# Altium integrated library Analog Devices Data Converters Analog-to-Digital Converters.IntLib: 2404 symbols (part 183 of 346)
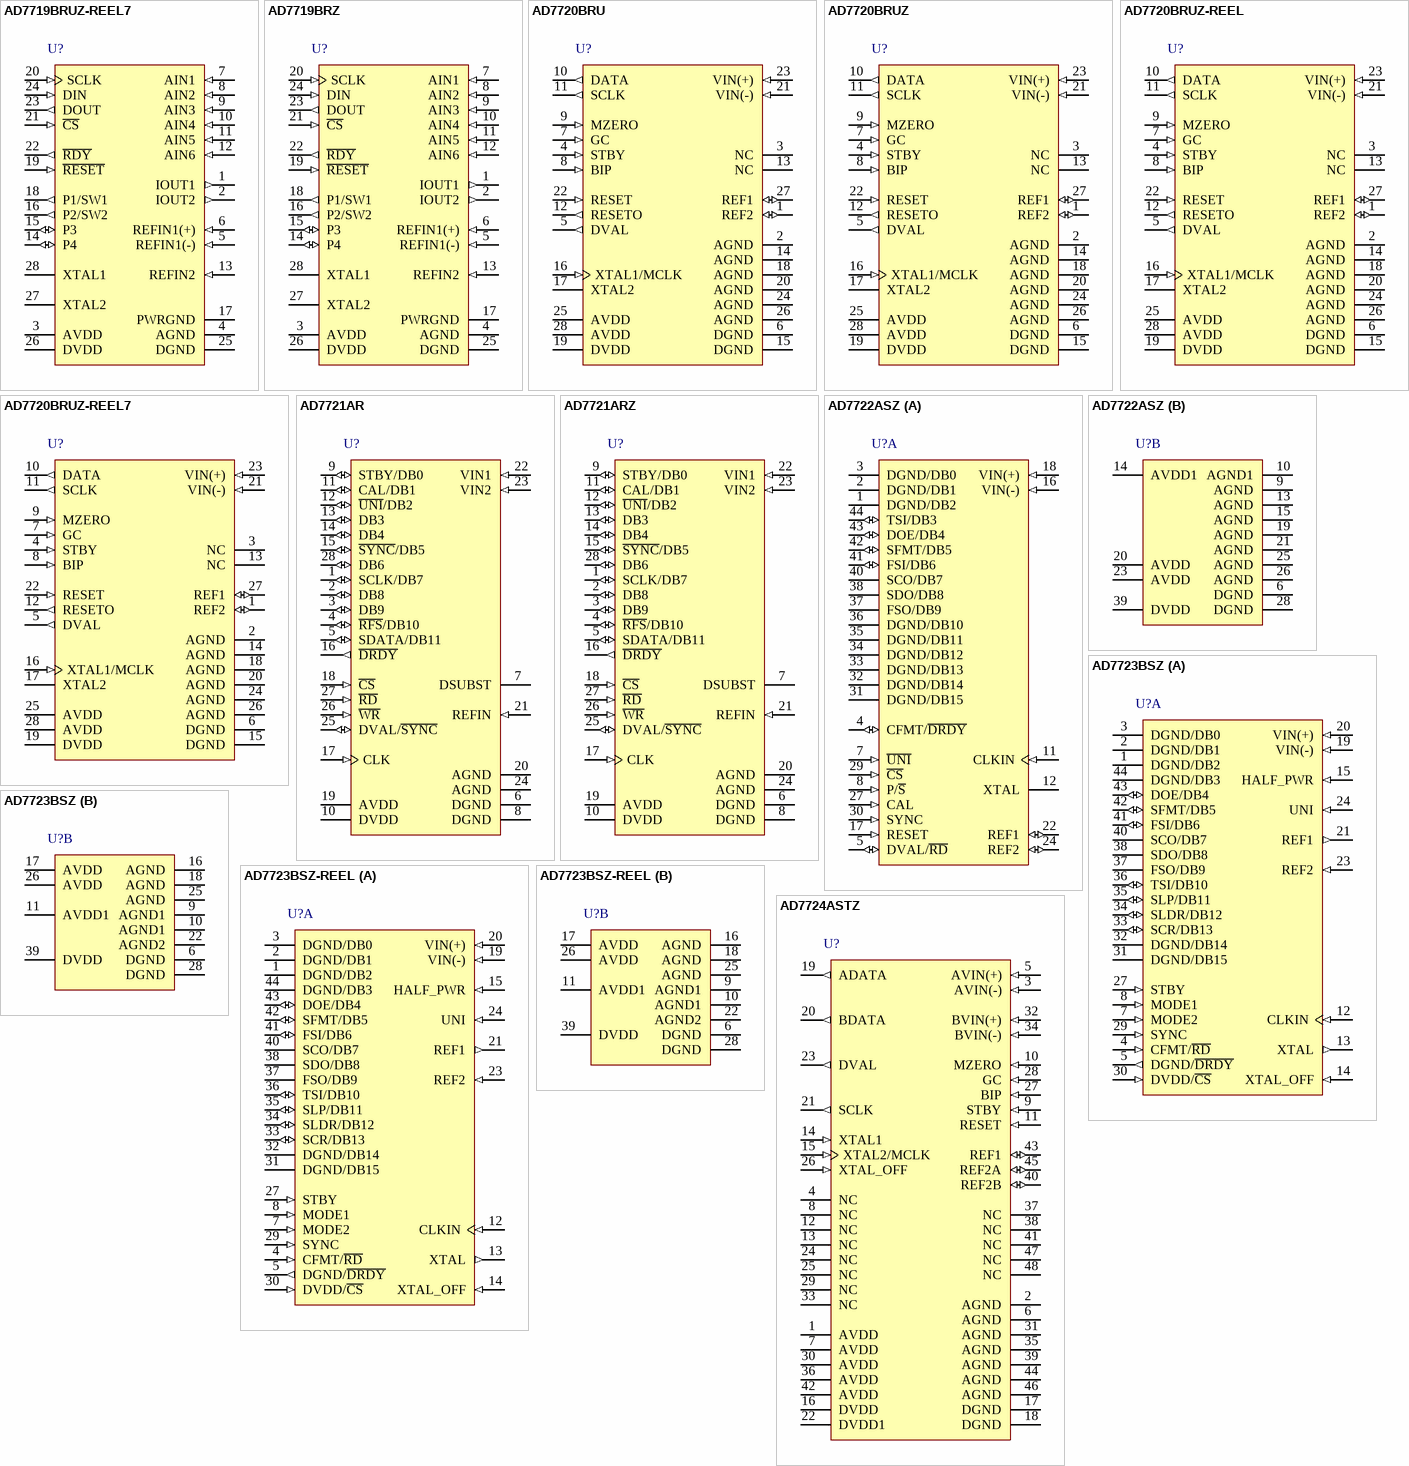
[diagram p254: symbols AD7719BRUZ-REEL7 to AD7724ASTZ]

## AD7723BSZ
designator U?
Single 16-Bit Sigma-Delta Analog-to-Digital Converter with Parallel, Serial Interface, 1.2MSPS, -40 to +85 degC, S-44-2, Pb-Free, Tray; Generic Part Number: AD7723; Manufacturer: Analog Devices; PartNumber: AD7723BSZ; Resolution (Bits): 16; Channels: 1; Throughput Rate (SPS): 1.2M; Interface: Par, Ser; DatasheetVersion: Rev.C; PackageVersion: 041807-A; PackageReference: S-44-2; PackageDescription: 44-Lead Metric Quad Flat Package [MQFP]; Supplier 1: Digi-Key; Supplier Part Number 1: AD7723BSZ-ND; Supplier 2: Farnell; Supplier Part Number 2: 2305561; Supplier 3: Newark; Supplier Part Number 3: 59K5366; Supplier 4: Mouser; Supplier Part Number 4: 584-AD7723BSZ; RoHS: Y; Packing: Tray; Mounting Technology: Surface Mount; Code_JEDEC: MO-122-AA-1; ComponentLink1Description: Manufacturer URL; ComponentLink1URL: http://www.analog.com/en/index.html; ComponentLink2Description: Datasheet; ComponentLink2URL: http://www.analog.com/static/imported-files/data_sheets/AD7723.pdf; ComponentLink3Description: Package Specification; ComponentLink3URL: http://www.analog.com/static/imported-files/packages/209183S_44_2.pdf; ComponentLink4Description: Product URL; ComponentLink4URL: http://www.analog.com/en/analog-to-digital-converters/ad-converters/ad7723/products/product.html
footprint S-44-2_N (QFP, 44-Leads, Body 10x10mm, Pitch 0.8mm, IPC Medium Density)
footprint S-44-2_L (QFP, 44-Leads, Body 10x10mm, Pitch 0.8mm, IPC High Density)
footprint S-44-2_M (QFP, 44-Leads, Body 10x10mm, Pitch 0.8mm, IPC Low Density)
part A pins: 1 DGND/DB2 (hiz) "Data Output Bit.Tie to DGND.", 2 DGND/DB1 (hiz) "Data Output Bit.Tie to DGND.", 3 DGND/DB0 (hiz) "Data Output Bit (LSB).Tie to DGND.", 4 CFMT/~{RD} (in) "Serial Clock Format Logic Input. The clock format pin selects whether the serial data, SDO, is valid on the rising or falling edge of the serial clock, SCO. When CFMT is logic low, serial data is valid on the falling edge of (See Datasheet)", 5 DGND/~{DRDY} (out) "Data Ready Logic Output. A falling edge indicates a new output word is available to be read from the output data register. D\R\D\Y\ returns high upon completion of a read operation. If a read operation does not occur between (See Datasheet)", 7 MODE2 (in) "Mode Control Inputs. The MODE1 and MODE2 pins choose either parallel or serial data interface operation.", 8 MODE1 (in) "Mode Control Inputs. The MODE1 and MODE2 pins choose either parallel or serial data interface operation", 12 CLKIN (in) "Clock Input. An external clock source can be applied directly to this pin with XTAL_OFF tied high.  Alternatively, a parallel resonant fundamental frequency crystal, in parallel with a 1 Mohm resistor, can  be connected (See Datasheet)", 13 XTAL (out) "Input to Crystal Oscillator Amplifier. If an external clock is used, XTAL should be tied to AGND1.", 14 XTAL_OFF (in) "Oscillator Enable Input. A logic high disables the crystal oscillator amplifier to allow use of an external  clock source. Set low when using an external crystal between the CLKIN and XTAL pins.", 15 HALF_PWR (in) "When set high, the power dissipation is reduced by approximately one-half, and a maximum CLKIN  frequency of 10 MHz applies.", 19 VIN(-) (in) "Negative Terminal of the Differential Analog Input.", 20 VIN(+) (in) "Positive Terminal of the Differential Analog Input.", 21 REF1 (out) "Reference Output. REF1 connects through 3 k ohm to the output of the internal 2.5 V reference and to a buffer amplifier that drives the sigma-delta modulator.", 23 REF2 (in) "Reference Input. REF2 connects to the output of an internal buffer amplifier that drives the sigma-delta modulator.When REF2 is used as an input, REF1 must be connected to AGND to disable the internal buffer amplifier.", 24 UNI (in) "Analog Input Range Select Input. The UNI pin selects the analog input range for either bipolar or unipolar  operation. A logic high input selects unipolar operation and a logic low selects bipolar operation.", 27 STBY (in) "Standby Logic Input. A logic high sets the AD7723 into the power-down state.", 29 SYNC (in) "Synchronization Logic Input. When using more than one AD7723 operated from a common master clock,  SYNC allows each ADC to simultaneously sample its analog input and update its output register. A rising  edge resets the (See Datasheet)", 30 DVDD/~{CS} (in) "Chip Select Logic Input. Tie to DGND.", 31 DGND/DB15 (hiz) "Data Output Bit (MSB).Tie to DGND.", 32 DGND/DB14 (hiz) "Data Output Bit.Tie to DGND.", 33 SCR/DB13 (io) "Data Output Bit.Serial Clock Rate Select Input. With SCR set logic low, the serial clock output frequency, SCO, is equal to the CLKIN frequency. A logic high sets it equal to one-half the CLKIN frequency.", 34 SLDR/DB12 (io) "Data Output Bit.Serial Mode Low/High Output Data Rate Select Input. With SLDR set logic high, the low data rate is selected. A logic low selects the high data rate. The high data rate corresponds to data at the output of the (See Datasheet)", 35 SLP/DB11 (io) "Serial Mode Low-Pass/Band-Pass Filter Select Input. With SLP set logic high, the low-pass filter response is selected. A logic low selects band-pass.", 36 TSI/DB10 (io) "Time Slot Logic Input. The logic level on TSI sets the active state of the DOE pin. With TSI set logic high, DOE enables the SDO output buffer when it is a logic high and vice versa. TSI is used when two AD7723s are (See Datasheet)", 37 FSO/DB9 (hiz) "Data Output Bit. Frame Sync Output. FSO indicates the beginning of a word transmission on the SDO pin. Depending on the logic level of the SFMT pin, the FSO signal is either a positive pulse approximately one SCO period wide (See Datasheet)", 38 SDO/DB8 (hiz) "Data Output Bit. Serial Data Output. The serial data is shifted out MSB first, synchronous with the SCO. Serial Mode 1 data transmissions last 32 SCO cycles. After the LSB is output, trailing zeros are output for the (See Datasheet)", 40 SCO/DB7 (hiz) "Data Output Bit. Serial Clock Output.", 41 FSI/DB6 (io) "Data Output Bit. Frame Synchronization Logic Input. The FSI input is used to synchronize the AD7723 serial output data register to an external source and to allow more than one AD7723, operated from a common master clock, to (See Datasheet)", 42 SFMT/DB5 (io) "Serial Data Format Logic Input. The logic level on the SFMT pin selects the format of the FSO signal for Serial Mode 1. A logic low makes the FSO output a pulse one SCO cycle wide at the beginning of a serial data (See Datasheet)", 43 DOE/DB4 (io) "Data Output Bit. Data Output Enable Logic Input. The DOE pin controls the three-state output buffer of the SDO pin. The active state of DOE is determined by the logic level on the TSI pin. When the DOE logic level equals the (See Datasheet)", 44 DGND/DB3 (hiz) "Data Output Bit. Tie to DGND."
part B pins: 6 DGND (power) "Ground Reference for Digital Circuitry.", 9 AGND1 (power) "Digital Logic Power Supply Ground for the Analog Modulator.", 10 AGND1 (power) "Digital Logic Power Supply Ground for the Analog Modulator.", 11 AVDD1 (power) "Digital Logic Power Supply Voltage for the Analog Modulator.", 16 AGND (power) "Power Supply Ground for the Analog Modulator.", 17 AVDD (power) "Positive Power Supply Voltage for the Analog Modulator.", 18 AGND (power) "Power Supply Ground for the Analog Modulator.", 22 AGND2 (power) "Power Supply Ground Return to the Reference Circuitry, REF2, of the Analog Modulator.", 25 AGND (power) "Power Supply Ground for the Analog Modulator.", 26 AVDD (power) "Positive Power Supply Voltage for the Analog Modulator.", 28 DGND (power) "Ground Reference for Digital Circuitry.", 39 DVDD (power) "Digital Power Supply Voltage; 5 V +/- 5%."

## AD7723BSZ-REEL
designator U?
Single 16-Bit Sigma-Delta Analog-to-Digital Converter with Parallel, Serial Interface, 1.2MSPS, -40 to +85 degC, S-44-2, Pb-Free, Reel; Generic Part Number: AD7723; Manufacturer: Analog Devices; PartNumber: AD7723BSZ-REEL; Resolution (Bits): 16; Channels: 1; Throughput Rate (SPS): 1.2M; Interface: Par, Ser; DatasheetVersion: Rev.C; PackageVersion: 041807-A; PackageReference: S-44-2; PackageDescription: 44-Lead Metric Quad Flat Package [MQFP]; Supplier 1: Digi-Key; Supplier Part Number 1: AD7723BSZ-REEL-ND; Supplier 2: Mouser; Supplier Part Number 2: 584-AD7723BSZ-R; RoHS: Y; Packing: Reel; Mounting Technology: Surface Mount; Code_JEDEC: MO-122-AA-1; ComponentLink1Description: Manufacturer URL; ComponentLink1URL: http://www.analog.com/en/index.html; ComponentLink2Description: Datasheet; ComponentLink2URL: http://www.analog.com/static/imported-files/data_sheets/AD7723.pdf; ComponentLink3Description: Package Specification; ComponentLink3URL: http://www.analog.com/static/imported-files/packages/209183S_44_2.pdf; ComponentLink4Description: Product URL; ComponentLink4URL: http://www.analog.com/en/analog-to-digital-converters/ad-converters/ad7723/products/product.html
footprint S-44-2_N (QFP, 44-Leads, Body 10x10mm, Pitch 0.8mm, IPC Medium Density)
footprint S-44-2_L (QFP, 44-Leads, Body 10x10mm, Pitch 0.8mm, IPC High Density)
footprint S-44-2_M (QFP, 44-Leads, Body 10x10mm, Pitch 0.8mm, IPC Low Density)
part A pins: 1 DGND/DB2 (hiz) "Data Output Bit.Tie to DGND.", 2 DGND/DB1 (hiz) "Data Output Bit.Tie to DGND.", 3 DGND/DB0 (hiz) "Data Output Bit (LSB).Tie to DGND.", 4 CFMT/~{RD} (in) "Serial Clock Format Logic Input. The clock format pin selects whether the serial data, SDO, is valid on the rising or falling edge of the serial clock, SCO. When CFMT is logic low, serial data is valid on the falling edge of (See Datasheet)", 5 DGND/~{DRDY} (out) "Data Ready Logic Output. A falling edge indicates a new output word is available to be read from the output data register. D\R\D\Y\ returns high upon completion of a read operation. If a read operation does not occur between (See Datasheet)", 7 MODE2 (in) "Mode Control Inputs. The MODE1 and MODE2 pins choose either parallel or serial data interface operation.", 8 MODE1 (in) "Mode Control Inputs. The MODE1 and MODE2 pins choose either parallel or serial data interface operation", 12 CLKIN (in) "Clock Input. An external clock source can be applied directly to this pin with XTAL_OFF tied high.  Alternatively, a parallel resonant fundamental frequency crystal, in parallel with a 1 Mohm resistor, can  be connected (See Datasheet)", 13 XTAL (out) "Input to Crystal Oscillator Amplifier. If an external clock is used, XTAL should be tied to AGND1.", 14 XTAL_OFF (in) "Oscillator Enable Input. A logic high disables the crystal oscillator amplifier to allow use of an external  clock source. Set low when using an external crystal between the CLKIN and XTAL pins.", 15 HALF_PWR (in) "When set high, the power dissipation is reduced by approximately one-half, and a maximum CLKIN  frequency of 10 MHz applies.", 19 VIN(-) (in) "Negative Terminal of the Differential Analog Input.", 20 VIN(+) (in) "Positive Terminal of the Differential Analog Input.", 21 REF1 (out) "Reference Output. REF1 connects through 3 k ohm to the output of the internal 2.5 V reference and to a buffer amplifier that drives the sigma-delta modulator.", 23 REF2 (in) "Reference Input. REF2 connects to the output of an internal buffer amplifier that drives the sigma-delta modulator.When REF2 is used as an input, REF1 must be connected to AGND to disable the internal buffer amplifier.", 24 UNI (in) "Analog Input Range Select Input. The UNI pin selects the analog input range for either bipolar or unipolar  operation. A logic high input selects unipolar operation and a logic low selects bipolar operation.", 27 STBY (in) "Standby Logic Input. A logic high sets the AD7723 into the power-down state.", 29 SYNC (in) "Synchronization Logic Input. When using more than one AD7723 operated from a common master clock,  SYNC allows each ADC to simultaneously sample its analog input and update its output register. A rising  edge resets the (See Datasheet)", 30 DVDD/~{CS} (in) "Chip Select Logic Input. Tie to DGND.", 31 DGND/DB15 (hiz) "Data Output Bit (MSB).Tie to DGND.", 32 DGND/DB14 (hiz) "Data Output Bit.Tie to DGND.", 33 SCR/DB13 (io) "Data Output Bit.Serial Clock Rate Select Input. With SCR set logic low, the serial clock output frequency, SCO, is equal to the CLKIN frequency. A logic high sets it equal to one-half the CLKIN frequency.", 34 SLDR/DB12 (io) "Data Output Bit.Serial Mode Low/High Output Data Rate Select Input. With SLDR set logic high, the low data rate is selected. A logic low selects the high data rate. The high data rate corresponds to data at the output of the (See Datasheet)", 35 SLP/DB11 (io) "Serial Mode Low-Pass/Band-Pass Filter Select Input. With SLP set logic high, the low-pass filter response is selected. A logic low selects band-pass.", 36 TSI/DB10 (io) "Time Slot Logic Input. The logic level on TSI sets the active state of the DOE pin. With TSI set logic high, DOE enables the SDO output buffer when it is a logic high and vice versa. TSI is used when two AD7723s are (See Datasheet)", 37 FSO/DB9 (hiz) "Data Output Bit. Frame Sync Output. FSO indicates the beginning of a word transmission on the SDO pin. Depending on the logic level of the SFMT pin, the FSO signal is either a positive pulse approximately one SCO period wide (See Datasheet)", 38 SDO/DB8 (hiz) "Data Output Bit. Serial Data Output. The serial data is shifted out MSB first, synchronous with the SCO. Serial Mode 1 data transmissions last 32 SCO cycles. After the LSB is output, trailing zeros are output for the (See Datasheet)", 40 SCO/DB7 (hiz) "Data Output Bit. Serial Clock Output.", 41 FSI/DB6 (io) "Data Output Bit. Frame Synchronization Logic Input. The FSI input is used to synchronize the AD7723 serial output data register to an external source and to allow more than one AD7723, operated from a common master clock, to (See Datasheet)", 42 SFMT/DB5 (io) "Serial Data Format Logic Input. The logic level on the SFMT pin selects the format of the FSO signal for Serial Mode 1. A logic low makes the FSO output a pulse one SCO cycle wide at the beginning of a serial data (See Datasheet)", 43 DOE/DB4 (io) "Data Output Bit. Data Output Enable Logic Input. The DOE pin controls the three-state output buffer of the SDO pin. The active state of DOE is determined by the logic level on the TSI pin. When the DOE logic level equals the (See Datasheet)", 44 DGND/DB3 (hiz) "Data Output Bit. Tie to DGND."
part B pins: 6 DGND (power) "Ground Reference for Digital Circuitry.", 9 AGND1 (power) "Digital Logic Power Supply Ground for the Analog Modulator.", 10 AGND1 (power) "Digital Logic Power Supply Ground for the Analog Modulator.", 11 AVDD1 (power) "Digital Logic Power Supply Voltage for the Analog Modulator.", 16 AGND (power) "Power Supply Ground for the Analog Modulator.", 17 AVDD (power) "Positive Power Supply Voltage for the Analog Modulator.", 18 AGND (power) "Power Supply Ground for the Analog Modulator.", 22 AGND2 (power) "Power Supply Ground Return to the Reference Circuitry, REF2, of the Analog Modulator.", 25 AGND (power) "Power Supply Ground for the Analog Modulator.", 26 AVDD (power) "Positive Power Supply Voltage for the Analog Modulator.", 28 DGND (power) "Ground Reference for Digital Circuitry.", 39 DVDD (power) "Digital Power Supply Voltage; 5 V +/- 5%."

## AD7724ASTZ
designator U?
Dual 15-Bit Sigma-Delta Analog-to-Digital Converter with Serial Interface, CMOS, 250KSPS, -40 to +85 degC, ST-48, Pb-Free, Tray; Generic Part Number: AD7724; Manufacturer: Analog Devices; PartNumber: AD7724ASTZ; Resolution (Bits): 15; Channels: 2; Throughput Rate (SPS): 250K; Interface: Ser; DatasheetVersion: Rev.B; PackageVersion: revA; PackageReference: ST-48; PackageDescription: 48-Pin Thin Quad Flat Pack 0.5 mm Pitch; Supplier 1: Digi-Key; Supplier Part Number 1: AD7724ASTZ-ND; Supplier 2: Mouser; Supplier Part Number 2: 584-AD7724ASTZ; RoHS: Y; Packing: Tray; Mounting Technology: Surface Mount; ComponentLink1Description: Manufacturer URL; ComponentLink1URL: http://www.analog.com/en/index.html; ComponentLink2Description: Datasheet; ComponentLink2URL: http://www.analog.com/static/imported-files/data_sheets/AD7724.pdf; ComponentLink3Description: Package Specification; ComponentLink3URL: http://www.analog.com/static/imported-files/packages/PKG_PDF/LQFP%28ST%29/ST_48.pdf; ComponentLink4Description: Product URL; ComponentLink4URL: http://www.analog.com/en/analog-to-digital-converters/ad-converters/ad7724/products/product.html
footprint ST-48_N (Thin QFP, 48-Leads, Body 7x7mm, Pitch 0.5mm, IPC Medium Density)
footprint ST-48_L (Thin QFP, 48-Leads, Body 7x7mm, Pitch 0.5mm, IPC High Density)
footprint ST-48_M (Thin QFP, 48-Leads, Body 7x7mm, Pitch 0.5mm, IPC Low Density)
pins: 1 AVDD (power) "Analog Positive Supply Voltage, 5 V +/- 5%.", 2 AGND (power) "Ground reference point for analog circuitry", 3 AVIN(-) (in) "Analog Input to Modulator A. In unipolar operation, the analog input range on AVIN(+) is AVIN(-) to (AVIN(-) + VREF); for bipolar operation, the analog input range on AVIN(+) is (AVIN(-) +/- VREF/2). The absolute analog (See Datasheet)", 4 NC "no connected", 5 AVIN(+) (in) "Analog Input to Modulator A. In unipolar operation, the analog input range on AVIN(+) is AVIN(-) to (AVIN(-) + VREF); for bipolar operation, the analog input range on AVIN(+) is (AVIN(-) +/- VREF/2). The absolute analog (See Datasheet)", 6 AGND (power) "Ground reference point for analog circuitry.", 7 AVDD (power) "Analog Positive Supply Voltage, 5 V +/- 5%", 8 NC "no connected", 9 STBY (in) "Standby, Logic Input. When STBY is high, the device is placed in a low power mode. When STBY is low, the device is powered up.", 10 MZERO (in) "Digital Control Input. When MZERO is high, the modulator inputs are internally grounded i.e. tied to AGND in unipolar mode and REF2 in bipolar mode. MZERO allows on-chip offsets to be calibrated out. MZERO is low for normal (See Datasheet)", 11 RESET (in) "Reset Logic Input. RESET is an asynchronous input. When RESET is taken high, the sigma-delta modulator is  reset by shorting the integrator capacitors in the modulator. DVAL goes low for 20 MCLK cycles while the modulator is (See Datasheet)", 12 NC "no connected", 13 NC "no connected", 14 XTAL1 (in) "Input to Crystal Oscillator Amplifier. This pin can also be used to gain up a small input square or sine wave with XTAL_OFF tied low (see Figure 32 on page 12). When a clock source is applied to XTAL1, SCLK will be inverted (See Datasheet)", 15 XTAL2/MCLK (in) "Clock Input. An external clock source can be applied directly to this pin with XTAL_OFF tied high. In this case, XTAL1 should be tied to AGND. Alternatively, a parallel resonant fundamental frequency crystal, in parallel (See Datasheet)", 16 DVDD (power) "Digital Supply Voltage, 5 V +/- 5%", 17 DGND (power) "Ground reference for the digital circuitry", 18 DGND (power) "Ground reference for the digital circuitry", 19 ADATA (out) "Modulator A Bit Stream. The digital bit stream from the sigma-delta modulator is output at ADATA.", 20 BDATA (out) "Modulator B Bit Stream. The digital bit stream from the sigma-delta modulator is output at BDATA.", 21 SCLK (out) "Serial Clock, Logic Output. The bit stream from modulator A and modulator B is valid on the rising edge of ASCLK", 22 DVDD1 (power) "Digital Supply Voltage for the digital outputs. DVDD1 can have a value of 5 V +/- 5% or 3 V +/- 5% so that the logic outputs can be 3 V or 5 V compatible.", 23 DVAL (out) "Data Valid Logic Output. A logic high on DVAL indicates that the data bit stream from the AD7724 is an accurate digital representation of the analog voltage at the input to the sigma-delta modulator. The DVAL pin is set low (See Datasheet)", 24 NC "no connected", 25 NC "no connected", 26 XTAL_OFF (in) "Oscillator Enable Input. A logic high disables the crystal oscillator amplifier to allow use of an external clock source. XTAL_OFF is set to a logic low when an external crystal is used between XTAL1 and XTAL2.", 27 BIP (in) "Analog Input Range Select, Logic Input. A logic low on this input selects unipolar mode. A logic high selects bipolar mode.", 28 GC (in) "Digital Control Input. When GC is high, the gain error of the modulator can be calibrated.", 29 NC "no connected", 30 AVDD (power) "Analog Positive Supply Voltage, 5 V +/- 5%", 31 AGND (power) "Ground reference point for analog circuitry.", 32 BVIN(+) (in) "Analog Input to Modulator B. In unipolar operation, the analog input range on BVIN(+) is BVIN(-) to (BVIN(-) + VREF); for bipolar operation, the analog input range on BVIN(+) is (BVIN(-) +/- VREF/2). The absolute analog (See Datasheet)", 33 NC "no connected", 34 BVIN(-) (in) "Analog Input to Modulator B. In unipolar operation, the analog input range on BVIN(+) is BVIN(-) to (BVIN(-) + VREF); for bipolar operation, the analog input range on BVIN(+) is (BVIN(-) +/- VREF/2). The absolute analog (See Datasheet)", 35 AGND (power) "Ground reference point for analog circuitry.", 36 AVDD (power) "Analog Positive Supply Voltage, 5 V +/- 5%", 37 NC "no connected", 38 NC "no connected", 39 AGND (power) "Ground reference point for analog circuitry.", 40 REF2B (io) "Reference Input/Output to Sigma-Delta Modulator B. REF2B connects to the output of an external buffer amplifier used to drive sigma-delta modulator B. When REF2B is used as an input, REF1 must be connected to AGND.", 41 NC "no connected", 42 AVDD (power) "Analog Positive Supply Voltage, 5 V +/- 5%", 43 REF1 (io) "Reference Input/Output. REF1 connects through 3 k ohm to the output of the internal 2.5 V reference and to the input of two buffer amplifiers that drive sigma-? modulator A and sigma-? modulator B. The pin can be overdriven (See Datasheet)", 44 AGND (power) "Ground reference point for analog circuitry.", 45 REF2A (io) "Reference Input/Output to Sigma-Delta Modulator A. REF2A connects to the output of an external buffer amplifier used to drive sigma-delta modulator A. When REF2A is used as an input, REF1 must be connected to AGND.", 46 AGND (power) "Ground reference point for analog circuitry.", 47 NC "no connected", 48 NC "no connected"

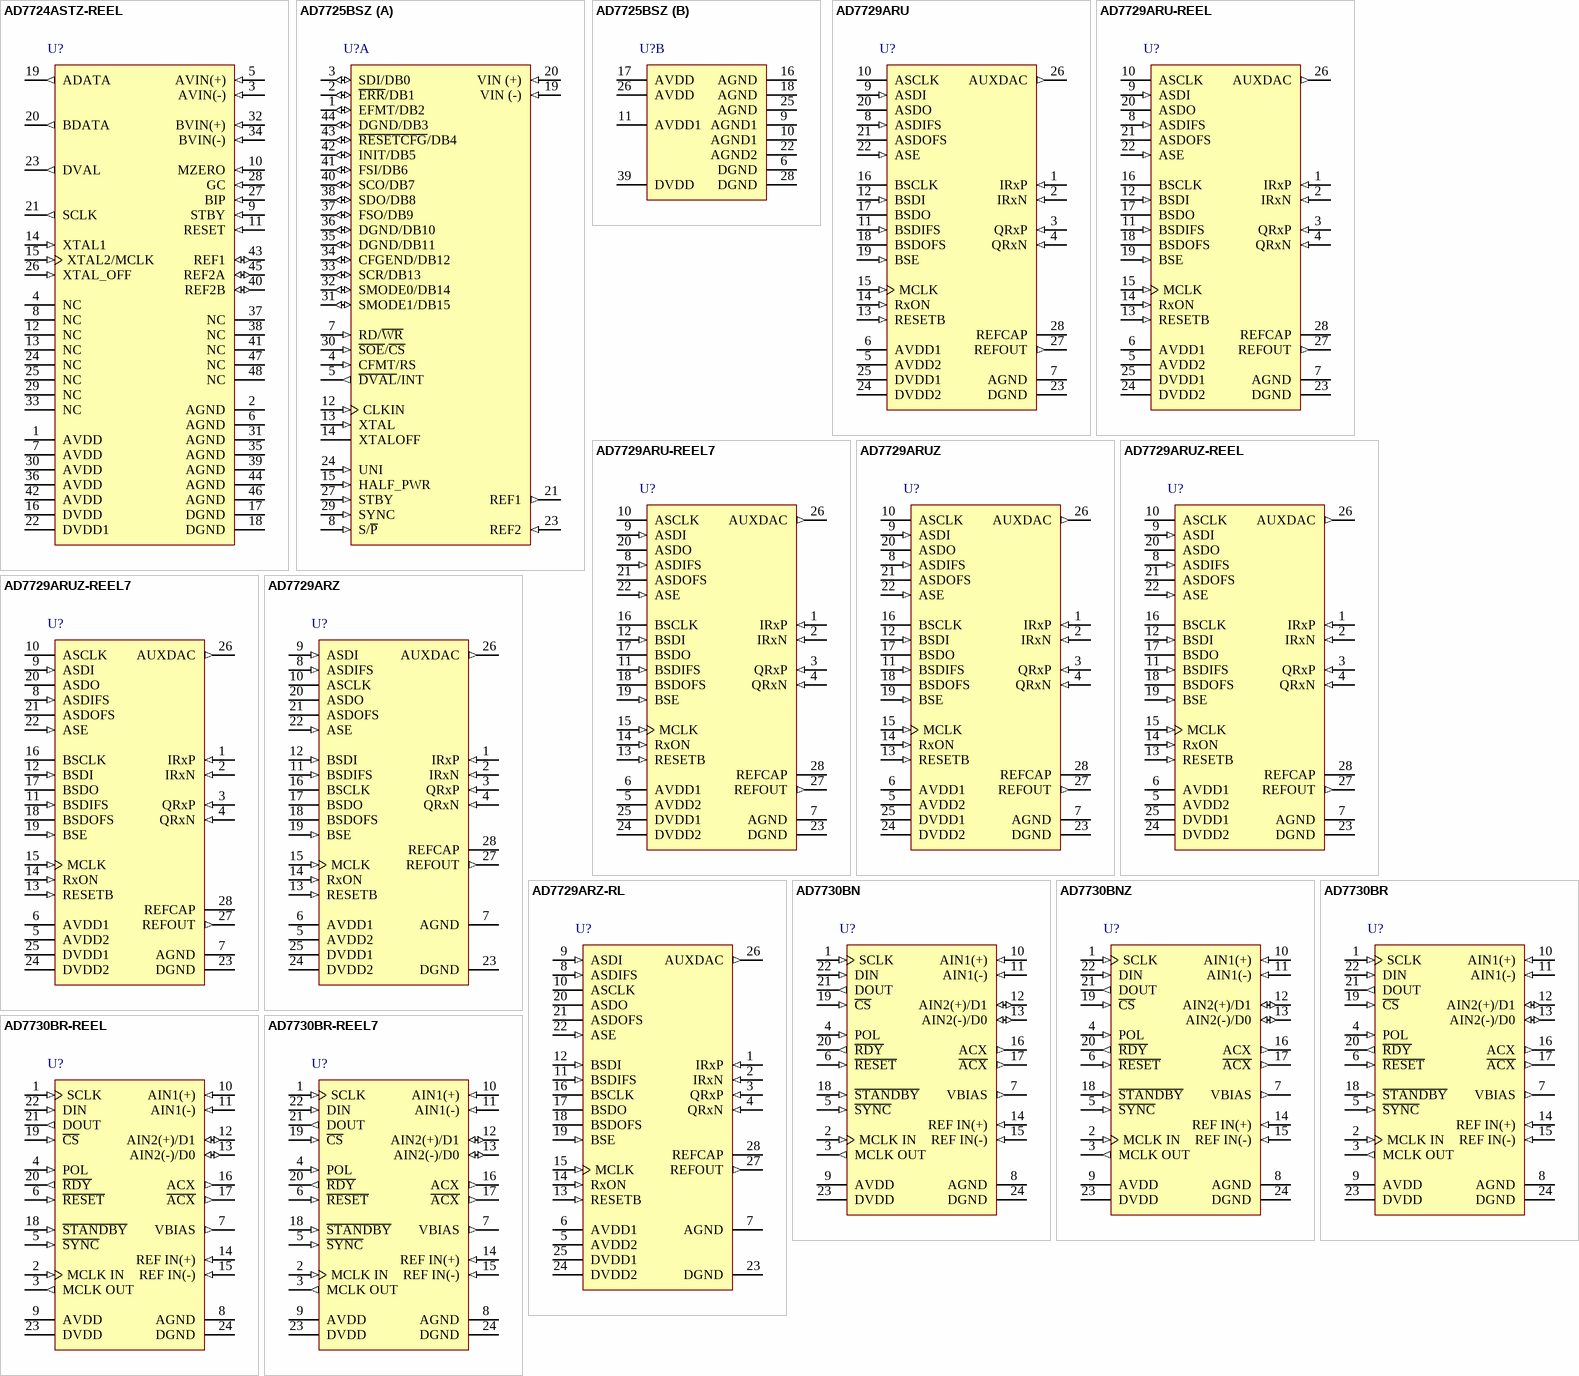
[diagram p56: symbols AD7724ASTZ-REEL to AD7730BR-REEL7]

## AD7724ASTZ-REEL
designator U?
Dual 15-Bit Sigma-Delta Analog-to-Digital Converter with Serial Interface, CMOS, 250KSPS, -40 to +85 degC, ST-48, Pb-Free, Reel; Generic Part Number: AD7724; Manufacturer: Analog Devices; PartNumber: AD7724ASTZ-REEL; Resolution (Bits): 15; Channels: 2; Throughput Rate (SPS): 250K; Interface: Ser; DatasheetVersion: Rev.B; PackageVersion: revA; PackageReference: ST-48; PackageDescription: 48-Pin Thin Quad Flat Pack 0.5 mm Pitch; Supplier 1: Digi-Key; Supplier Part Number 1: AD7724ASTZ-REEL-ND; Supplier 2: Mouser; Supplier Part Number 2: 584-AD7724ASTZ-R; RoHS: Y; Packing: Reel; Mounting Technology: Surface Mount; ComponentLink1Description: Manufacturer URL; ComponentLink1URL: http://www.analog.com/en/index.html; ComponentLink2Description: Datasheet; ComponentLink2URL: http://www.analog.com/static/imported-files/data_sheets/AD7724.pdf; ComponentLink3Description: Package Specification; ComponentLink3URL: http://www.analog.com/static/imported-files/packages/PKG_PDF/LQFP%28ST%29/ST_48.pdf; ComponentLink4Description: Product URL; ComponentLink4URL: http://www.analog.com/en/analog-to-digital-converters/ad-converters/ad7724/products/product.html
footprint ST-48_N (Thin QFP, 48-Leads, Body 7x7mm, Pitch 0.5mm, IPC Medium Density)
footprint ST-48_L (Thin QFP, 48-Leads, Body 7x7mm, Pitch 0.5mm, IPC High Density)
footprint ST-48_M (Thin QFP, 48-Leads, Body 7x7mm, Pitch 0.5mm, IPC Low Density)
pins: 1 AVDD (power) "Analog Positive Supply Voltage, 5 V +/- 5%.", 2 AGND (power) "Ground reference point for analog circuitry", 3 AVIN(-) (in) "Analog Input to Modulator A. In unipolar operation, the analog input range on AVIN(+) is AVIN(-) to (AVIN(-) + VREF); for bipolar operation, the analog input range on AVIN(+) is (AVIN(-) +/- VREF/2). The absolute analog (See Datasheet)", 4 NC "no connected", 5 AVIN(+) (in) "Analog Input to Modulator A. In unipolar operation, the analog input range on AVIN(+) is AVIN(-) to (AVIN(-) + VREF); for bipolar operation, the analog input range on AVIN(+) is (AVIN(-) +/- VREF/2). The absolute analog (See Datasheet)", 6 AGND (power) "Ground reference point for analog circuitry.", 7 AVDD (power) "Analog Positive Supply Voltage, 5 V +/- 5%", 8 NC "no connected", 9 STBY (in) "Standby, Logic Input. When STBY is high, the device is placed in a low power mode. When STBY is low, the device is powered up.", 10 MZERO (in) "Digital Control Input. When MZERO is high, the modulator inputs are internally grounded i.e. tied to AGND in unipolar mode and REF2 in bipolar mode. MZERO allows on-chip offsets to be calibrated out. MZERO is low for normal (See Datasheet)", 11 RESET (in) "Reset Logic Input. RESET is an asynchronous input. When RESET is taken high, the sigma-delta modulator is  reset by shorting the integrator capacitors in the modulator. DVAL goes low for 20 MCLK cycles while the modulator is (See Datasheet)", 12 NC "no connected", 13 NC "no connected", 14 XTAL1 (in) "Input to Crystal Oscillator Amplifier. This pin can also be used to gain up a small input square or sine wave with XTAL_OFF tied low (see Figure 32 on page 12). When a clock source is applied to XTAL1, SCLK will be inverted (See Datasheet)", 15 XTAL2/MCLK (in) "Clock Input. An external clock source can be applied directly to this pin with XTAL_OFF tied high. In this case, XTAL1 should be tied to AGND. Alternatively, a parallel resonant fundamental frequency crystal, in parallel (See Datasheet)", 16 DVDD (power) "Digital Supply Voltage, 5 V +/- 5%", 17 DGND (power) "Ground reference for the digital circuitry", 18 DGND (power) "Ground reference for the digital circuitry", 19 ADATA (out) "Modulator A Bit Stream. The digital bit stream from the sigma-delta modulator is output at ADATA.", 20 BDATA (out) "Modulator B Bit Stream. The digital bit stream from the sigma-delta modulator is output at BDATA.", 21 SCLK (out) "Serial Clock, Logic Output. The bit stream from modulator A and modulator B is valid on the rising edge of ASCLK", 22 DVDD1 (power) "Digital Supply Voltage for the digital outputs. DVDD1 can have a value of 5 V +/- 5% or 3 V +/- 5% so that the logic outputs can be 3 V or 5 V compatible.", 23 DVAL (out) "Data Valid Logic Output. A logic high on DVAL indicates that the data bit stream from the AD7724 is an accurate digital representation of the analog voltage at the input to the sigma-delta modulator. The DVAL pin is set low (See Datasheet)", 24 NC "no connected", 25 NC "no connected", 26 XTAL_OFF (in) "Oscillator Enable Input. A logic high disables the crystal oscillator amplifier to allow use of an external clock source. XTAL_OFF is set to a logic low when an external crystal is used between XTAL1 and XTAL2.", 27 BIP (in) "Analog Input Range Select, Logic Input. A logic low on this input selects unipolar mode. A logic high selects bipolar mode.", 28 GC (in) "Digital Control Input. When GC is high, the gain error of the modulator can be calibrated.", 29 NC "no connected", 30 AVDD (power) "Analog Positive Supply Voltage, 5 V +/- 5%", 31 AGND (power) "Ground reference point for analog circuitry.", 32 BVIN(+) (in) "Analog Input to Modulator B. In unipolar operation, the analog input range on BVIN(+) is BVIN(-) to (BVIN(-) + VREF); for bipolar operation, the analog input range on BVIN(+) is (BVIN(-) +/- VREF/2). The absolute analog (See Datasheet)", 33 NC "no connected", 34 BVIN(-) (in) "Analog Input to Modulator B. In unipolar operation, the analog input range on BVIN(+) is BVIN(-) to (BVIN(-) + VREF); for bipolar operation, the analog input range on BVIN(+) is (BVIN(-) +/- VREF/2). The absolute analog (See Datasheet)", 35 AGND (power) "Ground reference point for analog circuitry.", 36 AVDD (power) "Analog Positive Supply Voltage, 5 V +/- 5%", 37 NC "no connected", 38 NC "no connected", 39 AGND (power) "Ground reference point for analog circuitry.", 40 REF2B (io) "Reference Input/Output to Sigma-Delta Modulator B. REF2B connects to the output of an external buffer amplifier used to drive sigma-delta modulator B. When REF2B is used as an input, REF1 must be connected to AGND.", 41 NC "no connected", 42 AVDD (power) "Analog Positive Supply Voltage, 5 V +/- 5%", 43 REF1 (io) "Reference Input/Output. REF1 connects through 3 k ohm to the output of the internal 2.5 V reference and to the input of two buffer amplifiers that drive sigma-? modulator A and sigma-? modulator B. The pin can be overdriven (See Datasheet)", 44 AGND (power) "Ground reference point for analog circuitry.", 45 REF2A (io) "Reference Input/Output to Sigma-Delta Modulator A. REF2A connects to the output of an external buffer amplifier used to drive sigma-delta modulator A. When REF2A is used as an input, REF1 must be connected to AGND.", 46 AGND (power) "Ground reference point for analog circuitry.", 47 NC "no connected", 48 NC "no connected"

## AD7725BSZ
designator U?
Single 16-Bit Sigma-Delta Analog-to-Digital Converter with Parallel, Serial Interface, 900KSPS, -40 to +85 degC, S-44-2, Pb-Free, Tray; Generic Part Number: AD7725; Manufacturer: Analog Devices; PartNumber: AD7725BSZ; Resolution (Bits): 16; Channels: 1; Throughput Rate (SPS): 900K; Interface: Par, Ser; DatasheetVersion: Rev.A; PackageVersion: 041807-A; PackageReference: S-44-2; PackageDescription: 44-Lead Metric Quad Flat Package [MQFP]; Supplier 1: Digi-Key; Supplier Part Number 1: AD7725BSZ-ND; Supplier 2: Newark; Supplier Part Number 2: 12M8930; Supplier 3: Mouser; Supplier Part Number 3: N/A; RoHS: Y; Packing: Tray; Mounting Technology: Surface Mount; Code_JEDEC: MO-122-AA-1; ComponentLink1Description: Manufacturer URL; ComponentLink1URL: http://www.analog.com/en/index.html; ComponentLink2Description: Datasheet; ComponentLink2URL: http://www.analog.com/static/imported-files/data_sheets/AD7725.pdf; ComponentLink3Description: Package Specification; ComponentLink3URL: http://www.analog.com/static/imported-files/packages/209183S_44_2.pdf; ComponentLink4Description: Product URL; ComponentLink4URL: http://www.analog.com/en/analog-to-digital-converters/ad-converters/ad7725/products/product.html
footprint S-44-2_N (QFP, 44-Leads, Body 10x10mm, Pitch 0.8mm, IPC Medium Density)
footprint S-44-2_L (QFP, 44-Leads, Body 10x10mm, Pitch 0.8mm, IPC High Density)
footprint S-44-2_M (QFP, 44-Leads, Body 10x10mm, Pitch 0.8mm, IPC Low Density)
part A pins: 1 EFMT/DB2 (io) "Serial Mode. EFMT-Serial Clock Format, Logic Input. This clock format pin selects the clock edge to be used during configuration. When EFMT is low, Serial Data In is valid on the rising edge of SCO; when EFMT is high, Serial (See Datasheet)", 2 ~{ERR}/DB1 (io) "Serial Mode. E\R\R\-Configuration Error Flag, Logic Output. If an error occurs during configuration, this output goes low and is reset high by a pulse on the R\E\S\E\T\C\F\G\ pin.Parallel Mode. DB1-Data Input/Output Bit.", 3 SDI/DB0 (io) "Serial Mode. SDI-Serial Data Input. Serial data is shifted in to the AD7725 MSB first, in twos complement format, synchronous with SCO.Parallel Mode. DB0-Data Input/Output Bit (LSB).", 4 CFMT/RS (in) "Serial Mode. CFMT-Serial Clock Format, Logic Input. This clock format pin selects the clock edge to be used during normal operation. When CFMT is low, Serial Data Out is valid on the rising edge of SCO; when CFMT is high, (See Datasheet)", 5 ~{DVAL}/INT (out) "Serial Mode. D\V\A\L\-Data Valid Logic Output. This output is low when there are no overflows in the postprocessor and goes high when an overflow occurs in the postprocessor.Parallel Mode. INT-Interrupt Logic Output. INT (See Datasheet)", 7 RD/~{WR} (in) "Serial Mode. This input is not used in serial mode and should be tied to DGND. Parallel Mode. Read/Write Logic Input. This input is used in conjunction with the C\S\  input to read data from or write data to the device. A (See Datasheet)", 8 S/~{P} (in) "Serial/Parallel Interface Select. When S/P\ is tied low, parallel mode is selected. Serial mode is selected when S/P\ is tied high. To change the mode, a full power cycle needs to be performed.", 12 CLKIN (in) "Clock Input. An external clock source can be applied directly to this pin with XTALOFF tied high. Alternatively, a parallel resonant fundamental frequency crystal, in parallel with a 1 M resistor, can be connected between (See Datasheet)", 13 XTAL (in) "Input to Crystal Oscillator Amplifier. If an external clock is used, XTAL should be tied to AGND1.", 14 XTALOFF "Oscillator Enable Input. A logic high disables the crystal oscillator amplifier to allow the use of an external clock source. Set low to enable the crystal oscillator amplifier when using an external crystal between the (See Datasheet)", 15 HALF_PWR (in) "Logic Input. When this input is low, the typical analog current is 50 mA and a maximum CLKIN frequency of 14.4 MHz applies. When this input is high, the analog current typically halves and a maximum CLKIN frequency of 9.6 (See Datasheet)", 19 VIN (-) (in) "Negative Terminal of the Differential Analog Input.", 20 VIN (+) (in) "Positive Terminal of the Differential Analog Input.", 21 REF1 (out) "Reference Output. REF1 is connected to the output of the internal 2.5 V reference through a 3 k ohm resistor and to a reference buffer amplifier that drives the sigma delta modulator. When the internal reference is used, a 1 (See Datasheet)", 23 REF2 (in) "Reference Input. REF2 connects to the output of an external buffer amplifier used to drive the sigma delta  modulator. When REF2 is used as an input, REF1 must be connected to AGND to disable the internal buffer amplifier.", 24 UNI (in) "Analog Input Range Select Input. The UNI pin selects the analog input range for either bipolar (differential or single-ended input) or unipolar (single-ended input) operation. A logic high input selects unipolar operation (See Datasheet)", 27 STBY (in) "Standby, Logic Input. When STBY is taken high, the device will enter a low power mode. If the device was fully configured before entering this mode, it will not lose its configuration data. When STBY is brought low, the (See Datasheet)", 29 SYNC (in) "Synchronization Logic Input. When using more than one AD7725 operated from a common master clock, SYNC allows each ADC to simultaneously sample its analog input and update its output register. When SYNC is high, the digital (See Datasheet)", 30 ~{SOE}/~{CS} (in) "Serial Mode. S\O\E\-Serial Output Enable. In EPROM mode, S\O\E\ going low enables the external EPROM and is used to reset the EPROM’s address counter. In DSP mode, S\O\E\ is an active high interrupt. It goes high after a (See Datasheet)", 31 SMODE1/DB15 (io) "Serial Mode. SMODE1-Serial Mode Select, Logic Input. This pin selects the serial mode to be used (see Table IV) and thus informs the device where to download configuration data from automatically on power up. To change the (See Datasheet)", 32 SMODE0/DB14 (io) "Serial Mode. SMODE0-Serial Mode Select, Logic Input. This pin selects the serial mode to be used (see Table IV) and thus informs the device where to download configuration data from automatically on power-up. To change the (See Datasheet)", 33 SCR/DB13 (io) "Serial Mode. SCR-Serial Clock Rate Select, Logic Input. With SCR set to logic low, the serial clock output frequency, SCO, is equal to the CLKIN frequency. A logic high sets the frequency of SCO to one half the CLKIN (See Datasheet)", 34 CFGEND/DB12 (io) "Serial Mode. CFGEND-Configuration End, Logic Output. A logic high on CFGEND indicates that device programming is complete and no programming errors occurred.Parallel Mode. DB12-Data Input/Output Bit.", 35 DGND/DB11 (io) "Serial Mode. DGND-Digital Ground. Parallel Mode. DB11-Data Input/Output Bit.", 36 DGND/DB10 (io) "Serial Mode. DGND-Digital Ground. Parallel Mode. DB10-Data Input/Output Bit.", 37 FSO/DB9 (io) "Serial Mode. FSO-Frame Synchronization Output. FSO indicates the beginning of a word transmission on the SDO pin. The FSO signal is a positive pulse approximately one SCO period wide.Parallel Mode. DB9-Data Input/Output Bit.", 38 SDO/DB8 (io) "Serial Mode. SDO-Serial Data Output. The serial data is shifted out of the AD7725 MSB first, in twos complement format, synchronous with SCO.Parallel Mode. DB8-Data Input/Output Bit.", 40 SCO/DB7 (io) "Serial Mode. SCO-Serial Clock Output. The frequency of SCO is a function of the CLKIN frequency and is set by the SCR pin. When configuration data is being loaded into the AD7725, SCO = fCLKIN/16.Parallel Mode. DB7-Data (See Datasheet)", 41 FSI/DB6 (io) "Serial Mode. FSI-Frame Synchronization Input. FSI indicates the beginning of a word transmission on the SDI pin.Parallel Mode. DB6-Data Input/Output Bit.", 42 INIT/DB5 (io) "Serial Mode. INIT-Logic Input. When the device is correctly configured, a logic low on this pin will prevent the device from converting. When this pin is taken high, the device will start converting. When daisy-chaining (See Datasheet)", 43 ~{RESETCFG}/DB4 (io) "Serial Mode. R\E\S\E\T\C\F\G\-Logic Input. R\E\S\E\T\C\F\G\ is used to reset the part when a configuration error occurs. A low pulse on this pin will reset the part, and the configuration file will be downloaded again. The (See Datasheet)", 44 DGND/DB3 (io) "Serial Mode. DGND-Digital Ground. Parallel Mode. DB3-Data Input/Output Bit."
part B pins: 6 DGND (power) "Ground Reference for Digital Circuitry.", 9 AGND1 (power) "Digital Logic Power Supply Ground for the Analog Modulator.", 10 AGND1 (power) "Digital Logic Power Supply Ground for the Analog Modulator.", 11 AVDD1 (power) "Digital Logic Power Supply for the Analog Modulator.", 16 AGND (power) "Power Supply Ground for the Analog Modulator.", 17 AVDD (power) "Power Supply Voltage for the Analog Modulator.", 18 AGND (power) "Power Supply Ground for the Analog Modulator.", 22 AGND2 (power) "Power Supply Ground for the Reference Circuitry, REF2, of the Analog Modulator.", 25 AGND (power) "Power Supply Ground for the Analog Modulator.", 26 AVDD (power) "Power Supply Voltage for the Analog Modulator.", 28 DGND (power) "Ground Reference for Digital Circuitry.", 39 DVDD (power) "Digital Power Supply Voltage."

## AD7729ARU
designator U?
Dual 15-Bit Sigma-Delta Analog-to-Digital Converter with Serial Interface and Auxiliary DAC, 270.8KSPS, -40 to +105 degC, RU-28, Tube; Generic Part Number: AD7729; Manufacturer: Analog Devices; PartNumber: AD7729ARU; Resolution (Bits): 15; Channels: 2; Throughput Rate (SPS): 270.8K; Interface: Ser; DatasheetVersion: Rev.0; PackageVersion: 2005; PackageReference: RU-28; PackageDescription: 28-Lead Thin Shrink Small Outline Package [TSSOP]; Supplier 1: Digi-Key; Supplier Part Number 1: AD7729ARU-ND; Supplier 2: Mouser; Supplier Part Number 2: 584-AD7729ARU; RoHS: N; Packing: Tube; Mounting Technology: Surface Mount; Code_JEDEC: MO-153-AE; ComponentLink1Description: Manufacturer URL; ComponentLink1URL: http://www.analog.com/en/index.html; ComponentLink2Description: Datasheet; ComponentLink2URL: http://www.analog.com/static/imported-files/data_sheets/AD7729.pdf; ComponentLink3Description: Package Specification; ComponentLink3URL: http://www.analog.com/static/imported-files/packages/249854663RU_28.pdf; ComponentLink4Description: Product URL; ComponentLink4URL: http://www.analog.com/en/analog-to-digital-converters/ad-converters/ad7729/products/product.html
footprint RU-28_N (TSOP, 28-Leads, Body 9.7x4.4mm, Pitch 0.65mm, IPC Medium Density)
footprint RU-28_L (TSOP, 28-Leads, Body 9.7x4.4mm, Pitch 0.65mm, IPC High Density)
footprint RU-28_M (TSOP, 28-Leads, Body 9.7x4.4mm, Pitch 0.65mm, IPC Low Density)
pins: 1 IRxP (in) "Differential Analog Input for I Receive Channel.", 2 IRxN (in) "Differential Analog Input for I Receive Channel.", 3 QRxP (in) "Differential Analog Input for Q Receive Channel.", 4 QRxN (in) "Differential Analog Input for Q Receive Channel.", 5 AVDD2 (power) "Analog Power Supply Connection for the Auxiliary Section.", 6 AVDD1 (power) "Analog Power Supply Connection for the Rx Section and the Bandgap Reference.", 7 AGND (power) "Analog Ground Connection.", 8 ASDIFS (in) "Input Framing Signal for ASDI Serial Transfers.", 9 ASDI (in) "Serial Data Input of ASPORT. Both data and control information are input on this pin.", 10 ASCLK (hiz) "Serial Clock used to clock data or control bits to and from the auxiliary serial port (ASPORT).The frequency of ASCLK is programmable and is equal to the frequency of the master clock (MCLK) divided by an integer number.", 11 BSDIFS (in) "Input Framing Signal for BSDI Serial Transfers.", 12 BSDI (in) "Serial Data Input of BSPORT. Both data and control information are input on this pin.", 13 RESETB (in) "Active Low Reset Signal. This input resets the entire AD7729 chip, resetting the control registers and clearing the digital filters. The logic input levels (VINH and VINL) for RESETB are determined by the value of DVDD2.", 14 RxON (in) "Receive Section Power-On Digital Input.  The receive section is powered up by taking pin RxON high. The receive section can alternatively be powered up by programming bit RxON in baseband control register BCRA. When the (See Datasheet)", 15 MCLK (in) "Master Clock Input. MCLK is driven from a 13 MHz crystal. The active levels for MCLK are determined by the value of DVDD2.", 16 BSCLK (hiz) "Output serial clock used to clock data or control bits to and from the baseband serial port (BSPORT). The frequency of BSCLK is programmable and is equal to the frequency of the master clock (MCLK) divided by an integer (See Datasheet)", 17 BSDO (hiz) "Serial Data Output of BSPORT. Both data and control information are output on this pin.BSDO is in three-state when no information is being transmitted, thereby allowing external  control.", 18 BSDOFS (hiz) "Output Framing Signal for BSDO Serial Transfers.", 19 BSE (in) "BSPORT Enable. When BSE is low, the BSPORT is put into three-state thereby allowing external control of the serial bus.", 20 ASDO (hiz) "Serial Data Output of ASPORT. Both data and control information are output on this pin.ASDO is in three-state when no information is being transmitted, thereby allowing external control.", 21 ASDOFS (hiz) "Output Framing Signal for ASDO Serial Transfers.", 22 ASE (in) "ASPORT Enable. When ASE is low, the ASPORT is put into three-state thereby allowing external control of the serial bus.", 23 DGND (power) "Digital Ground Connection.", 24 DVDD2 (power) "Digital Power Supply Connection for the Serial Interface Section. This power supply also sets the threshold voltages for RxON, RESETB and MCLK.", 25 DVDD1 (power) "Digital Ground Connection.", 26 AUXDAC (out) "Analog Output Voltage from the 10-Bit Auxiliary DAC AUXDAC. This DAC is used for functions such as Automatic Gain Control (AGC). The DAC possesses a register that is accessible via the ASPORT or BSPORT. The DAC may be (See Datasheet)", 27 REFOUT (out) "Buffered Reference Output, which has a nominal value of 1.3 V.  A bypass capacitor (to AGND) of 0.1 µF is required on this pin.", 28 REFCAP "A bypass capacitor to AGND of 0.1 µF is required for the on-chip reference. The capacitor should be fixed to this pin."

## AD7729ARU-REEL
designator U?
Dual 15-Bit Sigma-Delta Analog-to-Digital Converter with Serial Interface and Auxiliary DAC, 270.8KSPS, -40 to +105 degC, RU-28, Reel; Generic Part Number: AD7729; Manufacturer: Analog Devices; PartNumber: AD7729ARU-REEL; Resolution (Bits): 15; Channels: 2; Throughput Rate (SPS): 270.8K; Interface: Ser; DatasheetVersion: Rev.0; PackageVersion: 2005; PackageReference: RU-28; PackageDescription: 28-Lead Thin Shrink Small Outline Package [TSSOP]; Supplier 1: Digi-Key; Supplier Part Number 1: AD7729ARU-REEL-ND; Supplier 2: Mouser; Supplier Part Number 2: 584-AD7729ARU-R; RoHS: N; Packing: Reel; Mounting Technology: Surface Mount; Code_JEDEC: MO-153-AE; ComponentLink1Description: Manufacturer URL; ComponentLink1URL: http://www.analog.com/en/index.html; ComponentLink2Description: Datasheet; ComponentLink2URL: http://www.analog.com/static/imported-files/data_sheets/AD7729.pdf; ComponentLink3Description: Package Specification; ComponentLink3URL: http://www.analog.com/static/imported-files/packages/249854663RU_28.pdf; ComponentLink4Description: Product URL; ComponentLink4URL: http://www.analog.com/en/analog-to-digital-converters/ad-converters/ad7729/products/product.html
footprint RU-28_N (TSOP, 28-Leads, Body 9.7x4.4mm, Pitch 0.65mm, IPC Medium Density)
footprint RU-28_L (TSOP, 28-Leads, Body 9.7x4.4mm, Pitch 0.65mm, IPC High Density)
footprint RU-28_M (TSOP, 28-Leads, Body 9.7x4.4mm, Pitch 0.65mm, IPC Low Density)
pins: 1 IRxP (in) "Differential Analog Input for I Receive Channel.", 2 IRxN (in) "Differential Analog Input for I Receive Channel.", 3 QRxP (in) "Differential Analog Input for Q Receive Channel.", 4 QRxN (in) "Differential Analog Input for Q Receive Channel.", 5 AVDD2 (power) "Analog Power Supply Connection for the Auxiliary Section.", 6 AVDD1 (power) "Analog Power Supply Connection for the Rx Section and the Bandgap Reference.", 7 AGND (power) "Analog Ground Connection.", 8 ASDIFS (in) "Input Framing Signal for ASDI Serial Transfers.", 9 ASDI (in) "Serial Data Input of ASPORT. Both data and control information are input on this pin.", 10 ASCLK (hiz) "Serial Clock used to clock data or control bits to and from the auxiliary serial port (ASPORT).The frequency of ASCLK is programmable and is equal to the frequency of the master clock (MCLK) divided by an integer number.", 11 BSDIFS (in) "Input Framing Signal for BSDI Serial Transfers.", 12 BSDI (in) "Serial Data Input of BSPORT. Both data and control information are input on this pin.", 13 RESETB (in) "Active Low Reset Signal. This input resets the entire AD7729 chip, resetting the control registers and clearing the digital filters. The logic input levels (VINH and VINL) for RESETB are determined by the value of DVDD2.", 14 RxON (in) "Receive Section Power-On Digital Input.  The receive section is powered up by taking pin RxON high. The receive section can alternatively be powered up by programming bit RxON in baseband control register BCRA. When the (See Datasheet)", 15 MCLK (in) "Master Clock Input. MCLK is driven from a 13 MHz crystal. The active levels for MCLK are determined by the value of DVDD2.", 16 BSCLK (hiz) "Output serial clock used to clock data or control bits to and from the baseband serial port (BSPORT). The frequency of BSCLK is programmable and is equal to the frequency of the master clock (MCLK) divided by an integer (See Datasheet)", 17 BSDO (hiz) "Serial Data Output of BSPORT. Both data and control information are output on this pin.BSDO is in three-state when no information is being transmitted, thereby allowing external  control.", 18 BSDOFS (hiz) "Output Framing Signal for BSDO Serial Transfers.", 19 BSE (in) "BSPORT Enable. When BSE is low, the BSPORT is put into three-state thereby allowing external control of the serial bus.", 20 ASDO (hiz) "Serial Data Output of ASPORT. Both data and control information are output on this pin.ASDO is in three-state when no information is being transmitted, thereby allowing external control.", 21 ASDOFS (hiz) "Output Framing Signal for ASDO Serial Transfers.", 22 ASE (in) "ASPORT Enable. When ASE is low, the ASPORT is put into three-state thereby allowing external control of the serial bus.", 23 DGND (power) "Digital Ground Connection.", 24 DVDD2 (power) "Digital Power Supply Connection for the Serial Interface Section. This power supply also sets the threshold voltages for RxON, RESETB and MCLK.", 25 DVDD1 (power) "Digital Ground Connection.", 26 AUXDAC (out) "Analog Output Voltage from the 10-Bit Auxiliary DAC AUXDAC. This DAC is used for functions such as Automatic Gain Control (AGC). The DAC possesses a register that is accessible via the ASPORT or BSPORT. The DAC may be (See Datasheet)", 27 REFOUT (out) "Buffered Reference Output, which has a nominal value of 1.3 V.  A bypass capacitor (to AGND) of 0.1 µF is required on this pin.", 28 REFCAP "A bypass capacitor to AGND of 0.1 µF is required for the on-chip reference. The capacitor should be fixed to this pin."